# Altium footprint library BRIDGE KBP_LARGE.PcbLib: 1 footprints
Each footprint in its own frame and in the unit in brackets; x right, y up, seen from the top. Pads: shape width x height; smd on the part's side, far side on the other; paste and mask are expansions set on the pad; w line width, h text height; cw(c..) or ccw(c..) is an arc to the next point about the centre after c.
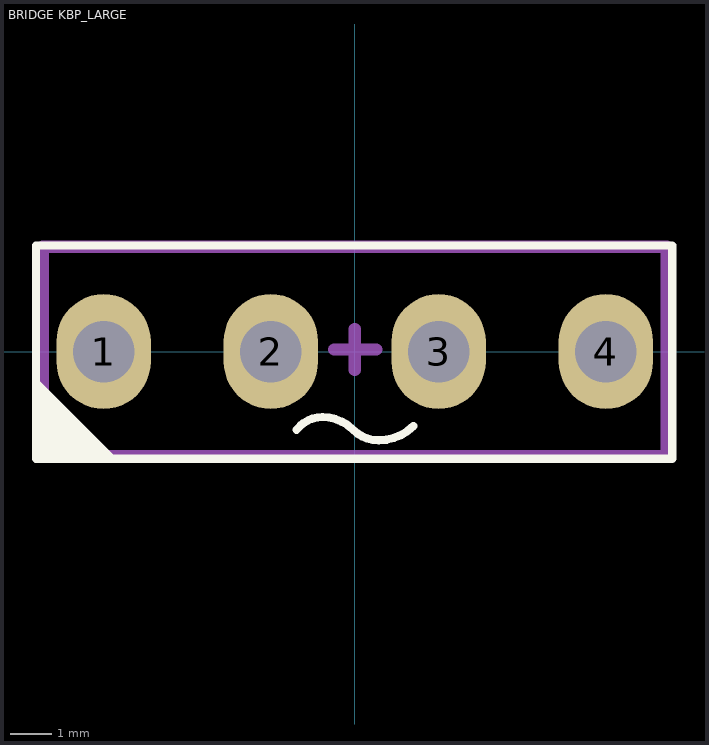
[diagram p0: the footprint, top view; thin cyan lines are the x and y axes]

## BRIDGE KBP_LARGE [mm]
pads (4):
  oval 2.3x2.8 hole 1.5: 1(-6.12,0) 2(-2.044,0) 3(2.044,0) 4(6.12,0)
Top Overlay:
  region: -5.834,-2.565 -7.7,-0.699 -7.7,-2.501 -7.771,-2.573
  lines w0.2: -1.417,-1.906 cw(c-0.788,-2.385) -0.788,-1.594 cw(c-0.788,-2.638) -0.05,-1.9 ccw(c0.585,-1.265) 0.585,-2.163 ccw(c0.585,-0.965) 1.433,-1.812 ; -7.765,-2.613 7.735,-2.613 7.735,2.587 -7.765,2.587 -7.765,-2.613
Mechanical 15:
  lines w0.3: -0.5,0.05 0.525,0.05 ; 0,-0.45 0,0.55 ; -7.6,-2.55 7.6,-2.55 7.6,2.55 -7.6,2.55 -7.6,-2.55
3D body: height 8, standoff 0.5, extent -7.365,-2.415 7.365,2.41